# Altium footprint library force_sensors.PcbLib: 1 footprints
Each footprint in its own frame and in the unit in brackets; x right, y up, seen from the top. Pads: shape width x height; smd on the part's side, far side on the other; paste and mask are expansions set on the pad; w line width, h text height; cw(c..) or ccw(c..) is an arc to the next point about the centre after c.
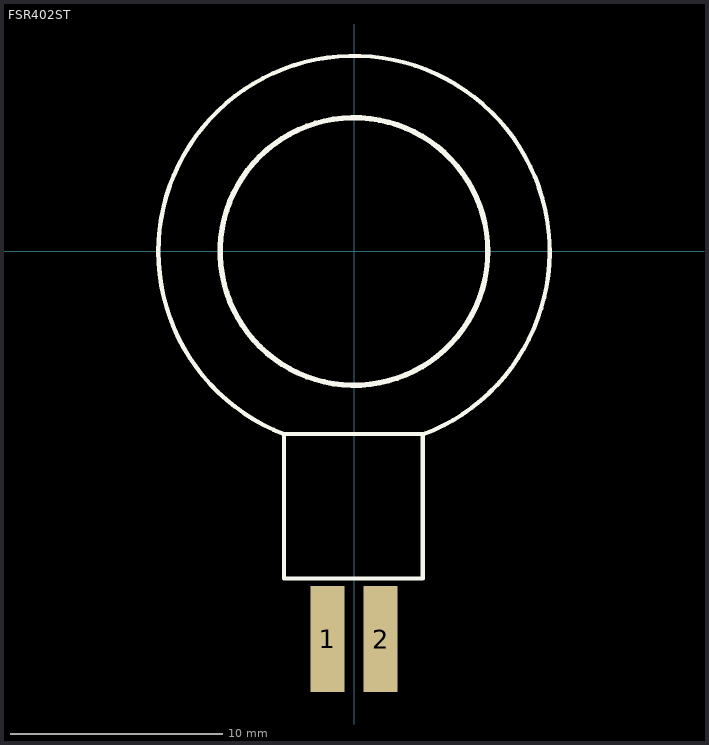
[diagram p0: the footprint, top view; thin cyan lines are the x and y axes]

## FSR402ST [mm]
pads (2):
  rect 1.6x5 smd: 1(-1.25,-18.25) 2(1.25,-18.25)
Top Overlay:
  circle w0.254: c0,0 r6.3
  lines w0.2: 3.3,-8.6 -3.3,-8.6 ; -3.3,-8.6 cw(c0,0) 3.234,-8.625 3.234,-15.4 -3.3,-15.4 -3.3,-8.6
3D body: height 0.2, standoff 0, extent -9.211,-9.25 9.211,9.172
3D body: height 0.3, standoff 0, extent -3.25,-15.25 3.25,-8.25
3D body: height 0.2, standoff 0, extent -1.75,-19.25 -0.75,-15.25
3D body: height 0.2, standoff 0, extent 0.75,-19.25 1.75,-15.25